# Altium schematic symbol library logos.SchLib: 1 symbol
Pins are listed as number, name and electrical type; pins without a type are passive.

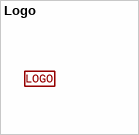
[diagram p0: symbol Logo]

## Logo
designator LOG?  (no BOM)
footprint logo_pluton
footprint logo_mag
footprint logo_iteam
footprint logo_upv
footprint logo_pluton_isotype
footprint logo_pluton_small
footprint logo_pluton_isotype_small
footprint logo_aea
footprint logo_lora
footprint logo_mag_big
text: LOGO